# Altium footprint library PcbLib1.PcbLib: 17 footprints (part 1 of 2)
Each footprint in its own frame and in the unit in brackets; x right, y up, seen from the top. Pads: shape width x height; smd on the part's side, far side on the other; paste and mask are expansions set on the pad; w line width, h text height; cw(c..) or ccw(c..) is an arc to the next point about the centre after c.
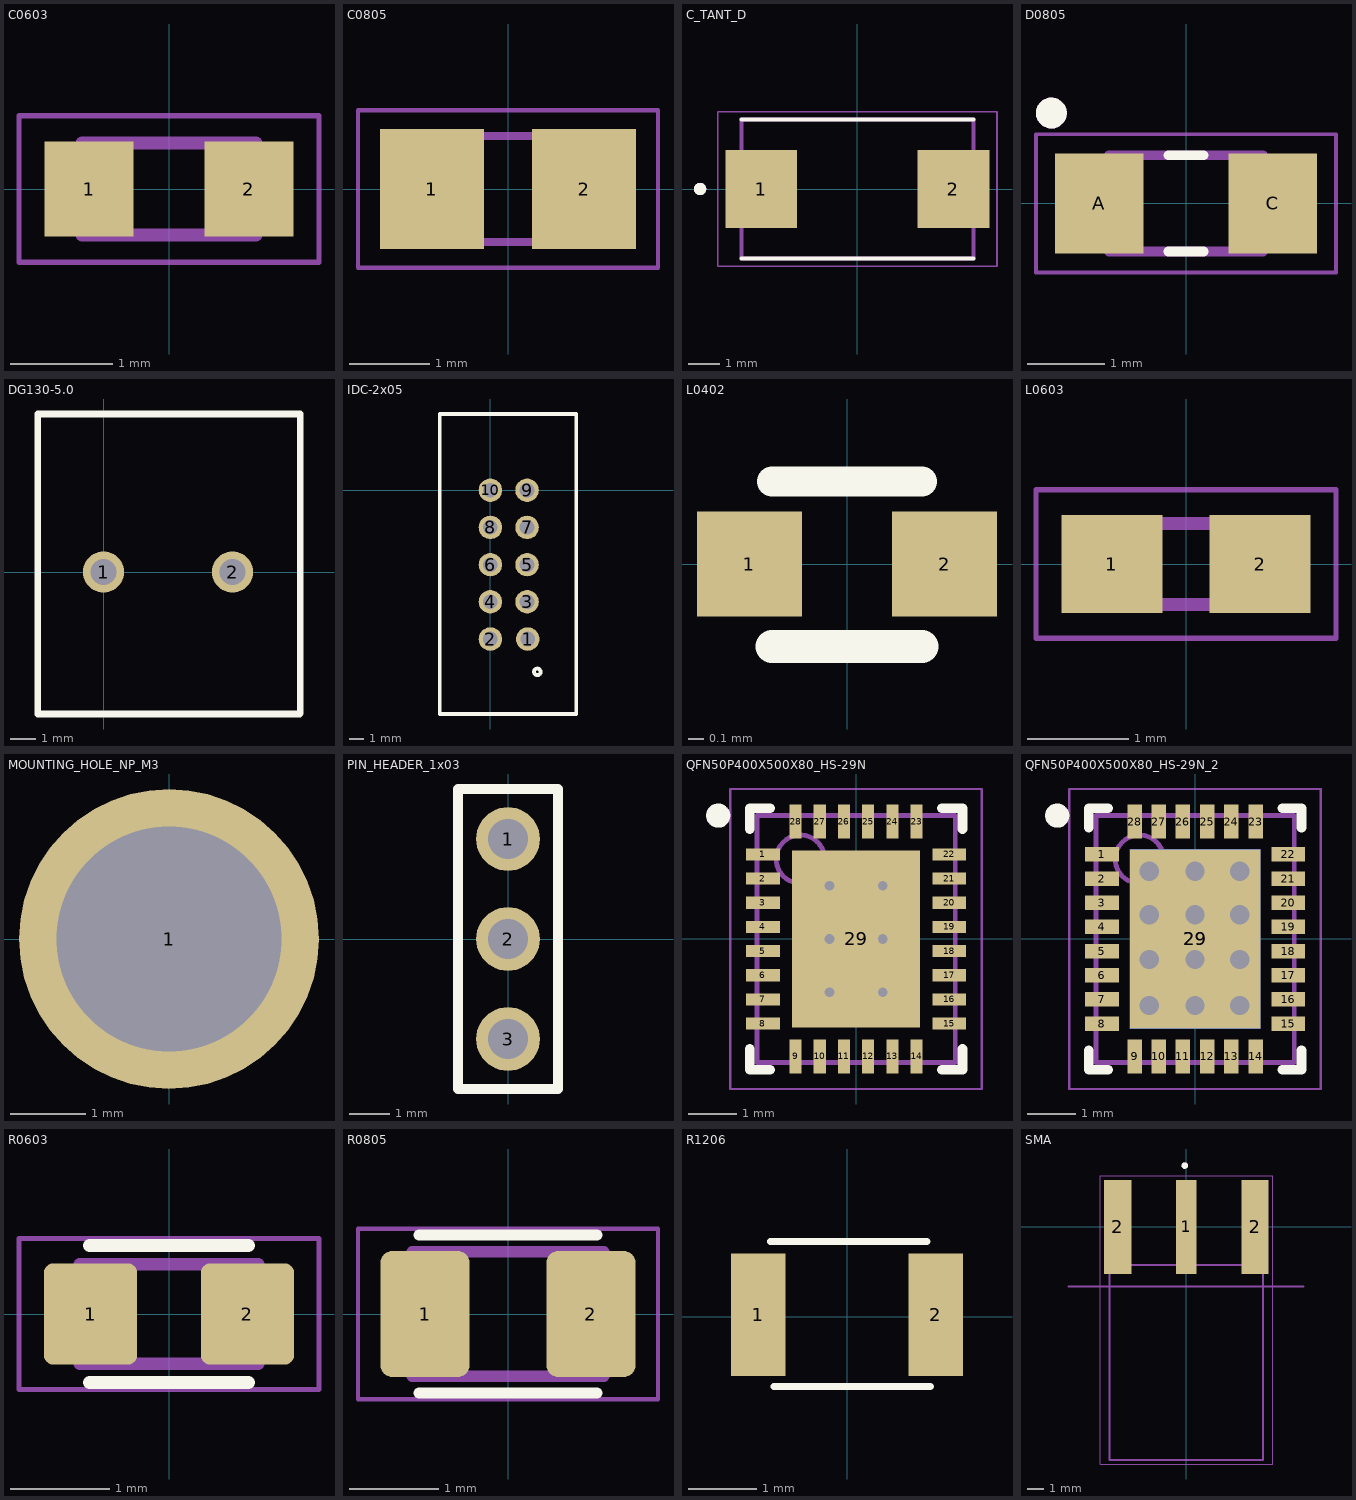
[diagram p0: the footprints below, top view; thin cyan lines are the x and y axes]

## C0603 [mm]
pads (2):
  rect 0.87x0.93 smd: 1(-0.78,0) 2(0.78,0)
Mechanical 13:
  lines w0.127: -0.85,-0.45 0.85,-0.45 0.85,0.45 -0.85,0.45 -0.85,-0.45
Mechanical 15:
  lines w0.05: -1.465,-0.715 1.465,-0.715 1.465,0.715 -1.465,0.715 -1.465,-0.715
3D body "CircuitWorks-CAPACITOR 0603.step": height 0.83, standoff -0.03, extent -0.8,-0.48 0.8,0.38

## C0805 [mm]
pads (2):
  rect 1.3x1.5 smd: 1(-0.95,0) 2(0.95,0)
Mechanical 13:
  region: -0.342,-0.725 -1.093,-0.725 -1.093,0.726 -0.342,0.726
  region: 1.106,-0.726 0.357,-0.726 0.357,0.726 1.106,0.726
  lines w0.102: -0.381,0.66 0.381,0.66 ; -0.356,-0.66 0.381,-0.66
Mechanical 15:
  lines w0.051: -1.873,-0.983 1.873,-0.983 1.873,0.983 -1.873,0.983 -1.873,-0.983
3D body "GRM21BR71C105KA01K.STEP": height 1.22, standoff -0.03, extent -1,-0.725 1,0.725

## C_TANT_D [mm]
pads (2):
  rect 2.31x2.52 smd: 1(-3.1,0) 2(3.1,0)
Top Overlay:
  circle w0.2: c-5.08,0 r0.1
  lines w0.127: -3.75,-2.25 3.75,-2.25 ; -3.75,2.25 3.75,2.25
Mechanical 13:
  circle w0.2: c-5.08,0 r0.1
  lines w0.127: -3.75,-2.25 3.75,-2.25 3.75,2.25 -3.75,2.25 -3.75,-2.25
Mechanical 15:
  lines w0.05: -4.505,-2.5 4.505,-2.5 4.505,2.5 -4.505,2.5 -4.505,-2.5
3D body "TAJD_AVX.step": height 3.15, standoff 0, extent -3.696,-2.273 3.796,2.223

## D0805 [mm]
pads (2):
  rect 1.15x1.3 smd: A(-1.125,0) C(1.125,0)
Top Overlay:
  circle w0.2: c-1.75,1.175 r0.1
  lines w0.127: -0.23,-0.625 0.23,-0.625 ; -0.23,0.625 0.23,0.625
Mechanical 13:
  circle w0.2: c-1.75,1.175 r0.1
  lines w0.127: -1,-0.625 -1,0.625 1,0.625 1,-0.625 -1,-0.625
Mechanical 15:
  lines w0.05: -1.95,-0.9 -1.95,0.9 1.95,0.9 1.95,-0.9 -1.95,-0.9
3D body "User Library-LED-0805-R.step": height 1.1, standoff 0, extent -0.975,-0.625 1.025,0.625

## DG130-5.0 [mm] "Klemens"
pads (2):
  round 1.6 hole 1: 1(0,0) 2(5,0)
Top Overlay:
  lines w0.254: -2.55,-5.5 7.6,-5.5 7.625,-5.475 7.625,6.125 -2.55,6.125 -2.55,-5.5
3D body "DG130-5.0-02P-14-00AH.STEP": height 18, standoff -5, extent -3.125,-5.55 7.425,5.65

## IDC-2x05 [mm]
pads (10):
  round 1.6 hole 1: 1(2.54,-10.16) 2(0,-10.16) 3(2.5,-7.62) 4(0,-7.62) 5(2.5,-5.08) 6(0,-5.08) 7(2.5,-2.54) 8(0,-2.54) 9(2.5,0) 10(0,0)
Top Overlay:
  circle w0.254: c3.2,-12.4 r0.224
  lines w0.254: -3.45,-15.275 -3.45,5.2 -0.3,5.2 5.85,5.2 5.85,-15.275 -3.45,-15.275
3D body "User Library-BH-10__64.step": height 9.1, standoff -3, extent -3.45,-15.3 5.85,5.2

## L0402 [mm]
pads (2):
  rect 0.7x0.7 smd: 1(-0.65,0) 2(0.65,0)
Top Overlay:
  lines w0.2: -0.5,0.55 0.5,0.55
  lines w0.22: -0.5,-0.55 0.5,-0.55

## L0603 [mm]
pads (2):
  rect 1x0.97 smd: 1(-0.735,0) 2(0.735,0)
Mechanical 13:
  lines w0.127: -0.8,-0.4 -0.8,0.4 0.8,0.4 0.8,-0.4 -0.8,-0.4
Mechanical 15:
  lines w0.05: -1.485,-0.735 1.485,-0.735 1.485,0.735 -1.485,0.735 -1.485,-0.735
3D body "step_temp.STEP": height 0.95, standoff 0, extent -0.8,-0.4 0.8,0.4

## MOUNTING_HOLE_NP_M3 [mm]
pads (1):
  round 4 hole 3: 1(0,0)

## PIN_HEADER_1x03 [mm]
pads (3):
  round 1.6 hole 1: 1(0,2.5) 2(0,0) 3(0,-2.5)
Top Overlay:
  lines w0.254: -1.25,-3.75 -1.25,3.75 0,3.75 1.25,3.75 1.25,-3.75 -1.25,-3.75
3D body "Pin Header 1x3 TH Pitch 2.54mm.stp": height 9.5, standoff -3.2, extent -1.27,-3.77 1.27,3.85

## QFN50P400X500X80_HS-29N [mm] "QFN, 28-Leads, Body 4.00x5.00mm, Pitch 0.50mm, Thermal Pad 2.65x3.65mm, IPC Medium Density"
height 0.8
pads (29):
  rect 0.7x0.25 smd: 1(-1.925,1.75) 2(-1.925,1.25) 3(-1.925,0.75) 4(-1.925,0.25) 5(-1.925,-0.25) 6(-1.925,-0.75) 7(-1.925,-1.25) 8(-1.925,-1.75) 15(1.925,-1.75) 16(1.925,-1.25) 17(1.925,-0.75) 18(1.925,-0.25) 19(1.925,0.25) 20(1.925,0.75) 21(1.925,1.25) 22(1.925,1.75)
  rect 0.25x0.7 smd: 9(-1.25,-2.425) 10(-0.75,-2.425) 11(-0.25,-2.425) 12(0.25,-2.425) 13(0.75,-2.425) 14(1.25,-2.425) 23(1.25,2.425) 24(0.75,2.425) 25(0.25,2.425) 26(-0.25,2.425) 27(-0.75,2.425) 28(-1.25,2.425)
  rect 2.65x3.65 smd: 29(0,0)
via 0.55,1.1 diameter 0.5 hole 0.2
via -0.55,1.1 diameter 0.5 hole 0.2
via 0.55,-1.1 diameter 0.5 hole 0.2
via -0.55,-1.1 diameter 0.5 hole 0.2
via 0.55,0 diameter 0.5 hole 0.2
via -0.55,0 diameter 0.5 hole 0.2
Top Overlay:
  circle w0.25: c-2.85,2.55 r0.125
  lines w0.2: -2.2,-2.275 -2.2,-2.7 -1.775,-2.7 ; -2.2,2.275 -2.2,2.7 -1.775,2.7 ; 1.775,-2.7 2.2,-2.7 2.2,-2.275 ; 1.775,2.7 2.2,2.7 2.2,2.275
Mechanical 13:
  circle w0.1: c-1.15,1.65 r0.5
  lines w0.1: -2.05,-2.55 2.05,-2.55 2.05,2.55 -2.05,2.55 -2.05,-2.55
Mechanical 15:
  lines w0.05: -2.6,-3.1 2.6,-3.1 2.6,3.1 -2.6,3.1 -2.6,-3.1
  lines w0.1: -0.5,0 0.5,0 ; 0,-0.5 0,0.5
3D body "QFN50P400X500X80_HS-29N.step": height 0.8, standoff 0, extent -2.1,-2.6 2.1,2.6

## QFN50P400X500X80_HS-29N_2 [mm] "QFN, 28-Leads, Body 4.00x5.00mm, Pitch 0.50mm, Thermal Pad 2.70x3.70mm, IPC Medium Density"
height 0.8
pads (30):
  rect 0.7x0.3 smd: 1(-1.925,1.75) 2(-1.925,1.25) 3(-1.925,0.75) 4(-1.925,0.25) 5(-1.925,-0.25) 6(-1.925,-0.75) 7(-1.925,-1.25) 8(-1.925,-1.75) 15(1.925,-1.75) 16(1.925,-1.25) 17(1.925,-0.75) 18(1.925,-0.25) 19(1.925,0.25) 20(1.925,0.75) 21(1.925,1.25) 22(1.925,1.75)
  rect 0.3x0.7 smd: 9(-1.25,-2.425) 10(-0.75,-2.425) 11(-0.25,-2.425) 12(0.25,-2.425) 13(0.75,-2.425) 14(1.25,-2.425) 23(1.25,2.425) 24(0.75,2.425) 25(0.25,2.425) 26(-0.25,2.425) 27(-0.75,2.425) 28(-1.25,2.425)
  rect 2.7x3.7 smd: 29(0,0)
  rect 2.7x3.7 smd far side: 29(0,0)
via -0.95,-1.375 diameter 0.6 hole 0.4
via -0.95,-0.425 diameter 0.6 hole 0.4
via -0.95,1.4 diameter 0.6 hole 0.4
via -0.95,0.5 diameter 0.6 hole 0.4
via 0,-1.375 diameter 0.6 hole 0.4
via 0,-0.425 diameter 0.6 hole 0.4
via 0,1.4 diameter 0.6 hole 0.4
via 0,0.5 diameter 0.6 hole 0.4
via 0.925,-1.375 diameter 0.6 hole 0.4
via 0.925,-0.425 diameter 0.6 hole 0.4
via 0.925,1.4 diameter 0.6 hole 0.4
via 0.925,0.5 diameter 0.6 hole 0.4
Top Overlay:
  circle w0.25: c-2.85,2.55 r0.125
  lines w0.2: -2.2,-2.3 -2.2,-2.7 -1.8,-2.7 ; -2.2,2.3 -2.2,2.7 -1.8,2.7 ; 1.8,-2.7 2.2,-2.7 2.2,-2.3 ; 1.8,2.7 2.2,2.7 2.2,2.3
Mechanical 13:
  circle w0.1: c-1.15,1.65 r0.5
  lines w0.1: -2.05,-2.55 2.05,-2.55 2.05,2.55 -2.05,2.55 -2.05,-2.55
Mechanical 15:
  lines w0.05: -2.6,-3.1 2.6,-3.1 2.6,3.1 -2.6,3.1 -2.6,-3.1
  lines w0.1: -0.5,0 0.5,0 ; 0,-0.5 0,0.5
3D body "QFN50P400X500X80_HS-29N_2.step": height 0.8, standoff 0, extent -2.1,-2.6 2.1,2.6

## R0603 [mm]
pads (2):
  rrect20% 0.94x1.02 smd: 1(-0.79,0) 2(0.79,0)
Top Overlay:
  lines w0.127: -0.8,-0.69 0.8,-0.69 ; -0.8,0.69 0.8,0.69
Mechanical 13:
  lines w0.127: -0.9,-0.5 0.9,-0.5 0.9,0.5 -0.9,0.5 -0.9,-0.5
Mechanical 15:
  lines w0.05: -1.51,-0.76 1.51,-0.76 1.51,0.76 -1.51,0.76 -1.51,-0.76

## R0805 [mm]
pads (2):
  rrect25% 1x1.42 smd: 1(-0.935,0) 2(0.935,0)
Top Overlay:
  lines w0.127: -1,-0.89 1,-0.89 ; -1,0.89 1,0.89
Mechanical 13:
  lines w0.127: -1.08,-0.7 -1.08,0.7 1.08,0.7 1.08,-0.7 -1.08,-0.7
Mechanical 15:
  lines w0.05: -1.69,-0.96 -1.69,0.96 1.69,0.96 1.69,-0.96 -1.69,-0.96

## R1206 [mm]
pads (2):
  rect 0.8x1.8 smd: 1(-1.3,0.025) 2(1.3,0.025)
Top Overlay:
  lines w0.1: -1.125,1.1 1.175,1.1 ; -1.075,-1.025 1.225,-1.025

## SMA [mil]
pads (3):
  rect 50x230 smd: 1(0,0)
  rect 67x230 smd: 2(-167.5,0) 2(167.5,0)
Top Overlay:
  circle w7.87: c-3.94,149.61 r3.94
Mechanical 13:
  circle w7.87: c-3.94,149.61 r3.94
  lines w5: -287.4,-145 -187.5,-145 ; 285.43,-145 187.5,-145 ; -187.5,-145 -187.5,-93.5 187.5,-93.5 187.5,-145 ; -187.5,-145 187.5,-145 ; -187.5,-145 -187.5,-568.5 187.5,-568.5 187.5,-145
  text "PCB Edge" at 253.94,-131.89 h50
Mechanical 15:
  lines w1.97: -210.84,-578.74 -210.84,124.84 210.84,124.84 210.84,-578.74 -210.84,-578.74
3D body "SMA_Launch_RibbedFlange.SLDPRT": height 136.31, standoff -175.69, extent -187.99,-571.34 187.01,-11.34